# Altium schematic symbol library ZVP4525ZTA.SchLib: 2 symbols
Pins are listed as number, name and electrical type; pins without a type are passive.

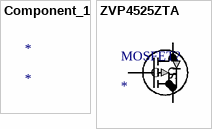
[diagram p0: symbols Component_1 to ZVP4525ZTA]

## Component_1
designator *

## ZVP4525ZTA
designator MOSFET?
No Description Available; Mfr_Name: Diodes Inc
footprint SOT-89-3_4P5X2P6_DIO
pins: 1 G, 2 D, 3 S